# EAGLE library part ICD26S13E4GX00LF (library D-Sub Connectors)
CONN DSUB HD RCPT 26POS R/A SLDR Manufacturer's datasheet <https://cdn.amphenol-icc.com/media/wysiwyg/files/drawing/c-cd-0019.pdf>
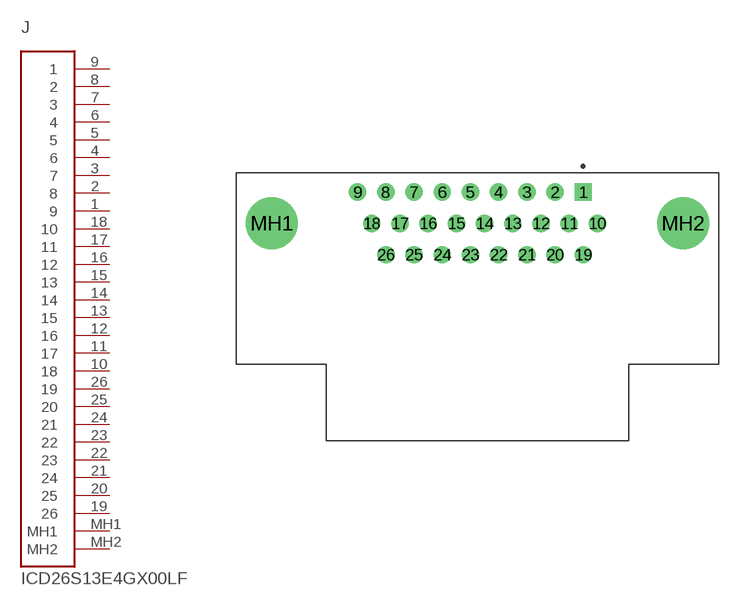
[diagram p16: symbol with the pads of ICD26S13E4GX00LF; footprint ICD26S13E4GX00LF]

Designator prefix J

## ICD26S13E4GX00LF (CREATED_BY: PCBLayout.com; DIGIKEY_PART_NUMBER: 609-2804-ND; MANUFACTURER: Amphenol ICC (FCI); MPN: ICD26S13E4GX00LF)  [ICD26S13E4GX00LF]
1  9  pas
2  8  pas
3  7  pas
4  6  pas
5  5  pas
6  4  pas
7  3  pas
8  2  pas
9  1  pas
10  18  pas
11  17  pas
12  16  pas
13  15  pas
14  14  pas
15  13  pas
16  12  pas
17  11  pas
18  10  pas
19  26  pas
20  25  pas
21  24  pas
22  23  pas
23  22  pas
24  21  pas
25  20  pas
26  19  pas
MH1  MH1  pas
MH2  MH2  pas

## Footprint ICD26S13E4GX00LF (pad centres in mm)
drill 0.9 square: 1 8.569,2.54
drill 0.9: 2 6.284,2.54; 3 3.999,2.54; 4 1.714,2.54; 5 -0.571,2.54; 6 -2.856,2.54; 7 -5.141,2.54; 8 -7.426,2.54; 9 -9.711,2.54; 10 9.711,0; 11 7.426,0; 12 5.141,0; 13 2.856,0; 14 0.571,0; 15 -1.714,0; 16 -3.999,0; 17 -6.284,0; 18 -8.569,0; 19 8.569,-2.54; 20 6.284,-2.54; 21 3.999,-2.54; 22 1.714,-2.54; 23 -0.571,-2.54; 24 -2.856,-2.54; 25 -5.141,-2.54; 26 -7.426,-2.54
drill 3.2: MH1 -16.66,0; MH2 16.66,0